# EAGLE library part L298N_MODULE (library MTS-OTR_Custom)
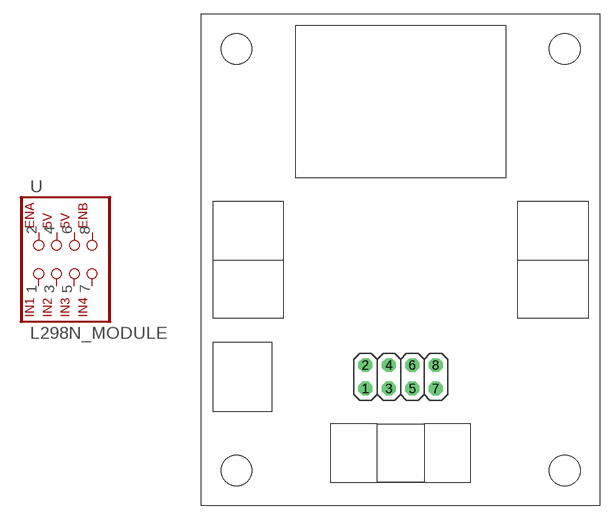
[diagram p23: symbol with the pads of L298N_MODULE; footprint L298N_MODULE]

Designator prefix -

## L298N_MODULE  [L298N_MODULE]
1  IN1  pas
2  ENA  pas
3  IN2  pas
4  5VA  pas
5  IN3  pas
6  5VB  pas
7  IN4  pas
8  ENB  pas

## Footprint L298N_MODULE (pad centres in mm)
drill 1 octagon: 1 -3.81,-13.97; 2 -3.81,-11.43; 3 -1.27,-13.97; 4 -1.27,-11.43; 5 1.27,-13.97; 6 1.27,-11.43; 7 3.81,-13.97; 8 3.81,-11.43